# EAGLE library part DLS4SPPAN23X (library untitled)
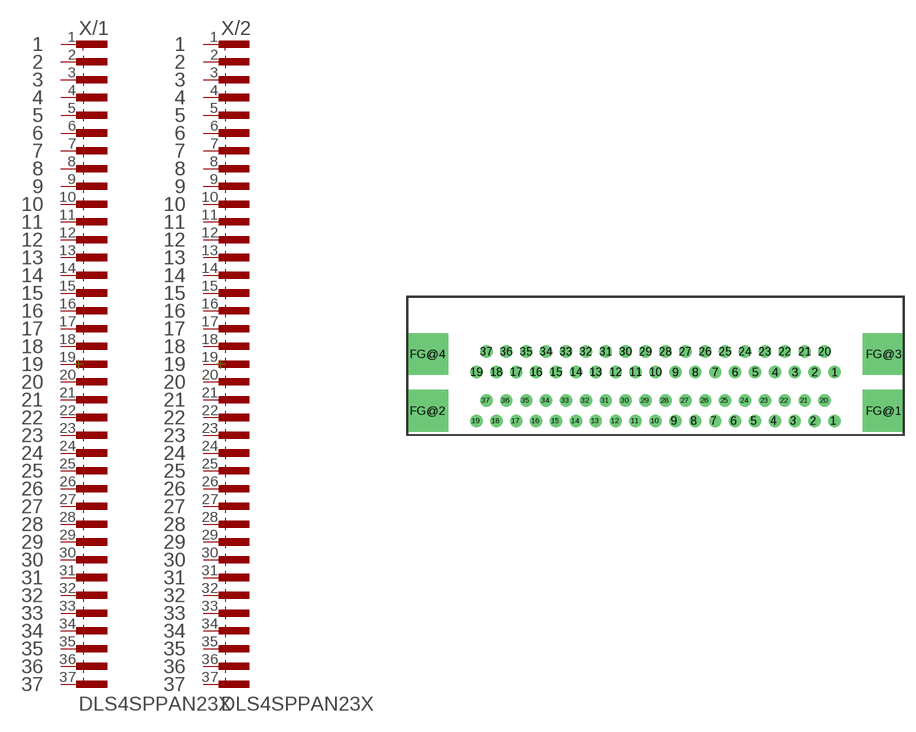
[diagram p7: symbol with the pads of DLS4PP5AN23X; footprint DLS4PP5AN23X]

Designator prefix X; gates /1=ST37 /2=ST37 BEF1=BEFESTIGUNG BEF2=BEFESTIGUNG BEF3=BEFESTIGUNG BEF4=BEFESTIGUNG

## DLS4SPPAN23X  [DLS4PP5AN23X]
1  /1:1  pas
1  /2:1  pas
2  /1:2  pas
2  /2:2  pas
3  /1:3  pas
3  /2:3  pas
4  /1:4  pas
4  /2:4  pas
5  /1:5  pas
5  /2:5  pas
6  /1:6  pas
6  /2:6  pas
7  /1:7  pas
7  /2:7  pas
8  /1:8  pas
8  /2:8  pas
9  /1:9  pas
9  /2:9  pas
10  /1:10  pas
10  /2:10  pas
11  /1:11  pas
11  /2:11  pas
12  /1:12  pas
12  /2:12  pas
13  /1:13  pas
13  /2:13  pas
14  /1:14  pas
14  /2:14  pas
15  /1:15  pas
15  /2:15  pas
16  /1:16  pas
16  /2:16  pas
17  /1:17  pas
17  /2:17  pas
18  /1:18  pas
18  /2:18  pas
19  /1:19  pas
19  /2:19  pas
20  /1:20  pas
20  /2:20  pas
21  /1:21  pas
21  /2:21  pas
22  /1:22  pas
22  /2:22  pas
23  /1:23  pas
23  /2:23  pas
24  /1:24  pas
24  /2:24  pas
25  /1:25  pas
25  /2:25  pas
26  /1:26  pas
26  /2:26  pas
27  /1:27  pas
27  /2:27  pas
28  /1:28  pas
28  /2:28  pas
29  /1:29  pas
29  /2:29  pas
30  /1:30  pas
30  /2:30  pas
31  /1:31  pas
31  /2:31  pas
32  /1:32  pas
32  /2:32  pas
33  /1:33  pas
33  /2:33  pas
34  /1:34  pas
34  /2:34  pas
35  /1:35  pas
35  /2:35  pas
36  /1:36  pas
36  /2:36  pas
37  /1:37  pas
37  /2:37  pas
FG@1  BEF1:1  pas
FG@2  BEF2:1  pas
FG@3  BEF3:1  pas
FG@4  BEF4:1  pas

## Footprint DLS4PP5AN23X (pad centres in mm)
drill 1 pad 1.72 round: 1 24.93,-10.62; 1  24.93,-17.42; 2 22.16,-10.62; 2  22.16,-17.42; 3 19.39,-10.62; 3  19.39,-17.42; 4 16.62,-10.62; 4  16.62,-17.42; 5 13.85,-10.62; 5  13.85,-17.42; 6 11.08,-10.62; 6  11.08,-17.42; 7 8.31,-10.62; 7  8.31,-17.42; 8 5.54,-10.62; 8  5.54,-17.42; 9 2.77,-10.62; 9  2.77,-17.42; 10 0,-10.62; 10  0,-17.42; 11 -2.77,-10.62; 11  -2.77,-17.42; 12 -5.54,-10.62; 12  -5.54,-17.42; 13 -8.31,-10.62; 13  -8.31,-17.42; 14 -11.08,-10.62; 14  -11.08,-17.42; 15 -13.85,-10.62; 15  -13.85,-17.42; 16 -16.62,-10.62; 16  -16.62,-17.42; 17 -19.39,-10.62; 17  -19.39,-17.42; 18 -22.16,-10.62; 18  -22.16,-17.42; 19 -24.93,-10.62; 19  -24.93,-17.42; 20 23.545,-7.78; 20  23.545,-14.58; 21 20.775,-7.78; 21  20.775,-14.58; 22 18.005,-7.78; 22  18.005,-14.58; 23 15.235,-7.78; 23  15.235,-14.58; 24 12.465,-7.78; 24  12.465,-14.58; 25 9.695,-7.78; 25  9.695,-14.58; 26 6.925,-7.78; 26  6.925,-14.58; 27 4.155,-7.78; 27  4.155,-14.58; 28 1.385,-7.78; 28  1.385,-14.58; 29 -1.385,-7.78; 29  -1.385,-14.58; 30 -4.155,-7.78; 30  -4.155,-14.58; 31 -6.925,-7.78; 31  -6.925,-14.58; 32 -9.695,-7.78; 32  -9.695,-14.58; 33 -12.465,-7.78; 33  -12.465,-14.58; 34 -15.235,-7.78; 34  -15.235,-14.58; 35 -18.005,-7.78; 35  -18.005,-14.58; 36 -20.775,-7.78; 36  -20.775,-14.58; 37 -23.545,-7.78; 37  -23.545,-14.58
drill 3.1 pad 5.8 square: FG@1 31.75,-16; FG@2 -31.75,-16; FG@3 31.75,-8.1; FG@4 -31.75,-8.1